# EAGLE library part M20X2 (library SparkFun-Connectors)
2x20 0.1" headers
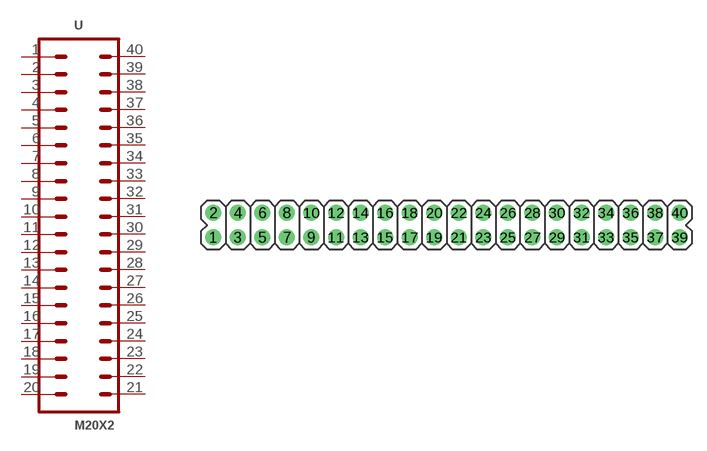
[diagram p80: symbol with the pads of 2X20; footprint 2X20]

Designator prefix -

## M20X2  [2X20]
1  1  pas
2  3  pas
3  5  pas
4  7  pas
5  9  pas
6  11  pas
7  13  pas
8  15  pas
9  17  pas
10  19  pas
11  21  pas
12  23  pas
13  25  pas
14  27  pas
15  29  pas
16  31  pas
17  33  pas
18  35  pas
19  37  pas
20  39  pas
21  40  pas
22  38  pas
23  36  pas
24  34  pas
25  32  pas
26  30  pas
27  28  pas
28  26  pas
29  24  pas
30  22  pas
31  20  pas
32  18  pas
33  16  pas
34  14  pas
35  12  pas
36  10  pas
37  8  pas
38  6  pas
39  4  pas
40  2  pas

## Footprint 2X20 (pad centres in mm)
drill 1.016 pad 1.651: 1 -24.13,-1.27; 2 -24.13,1.27; 3 -21.59,-1.27; 4 -21.59,1.27; 5 -19.05,-1.27; 6 -19.05,1.27; 7 -16.51,-1.27; 8 -16.51,1.27; 9 -13.97,-1.27; 10 -13.97,1.27; 11 -11.43,-1.27; 12 -11.43,1.27; 13 -8.89,-1.27; 14 -8.89,1.27; 15 -6.35,-1.27; 16 -6.35,1.27; 17 -3.81,-1.27; 18 -3.81,1.27; 19 -1.27,-1.27; 20 -1.27,1.27; 21 1.27,-1.27; 22 1.27,1.27; 23 3.81,-1.27; 24 3.81,1.27; 25 6.35,-1.27; 26 6.35,1.27; 27 8.89,-1.27; 28 8.89,1.27; 29 11.43,-1.27; 30 11.43,1.27; 31 13.97,-1.27; 32 13.97,1.27; 33 16.51,-1.27; 34 16.51,1.27; 35 19.05,-1.27; 36 19.05,1.27; 37 21.59,-1.27; 38 21.59,1.27; 39 24.13,-1.27; 40 24.13,1.27